# Altium footprint library Capacitor Footprints.PcbLib: 9 footprints
Each footprint in its own frame and in the unit in brackets; x right, y up, seen from the top. Pads: shape width x height; smd on the part's side, far side on the other; paste and mask are expansions set on the pad; w line width, h text height; cw(c..) or ccw(c..) is an arc to the next point about the centre after c.
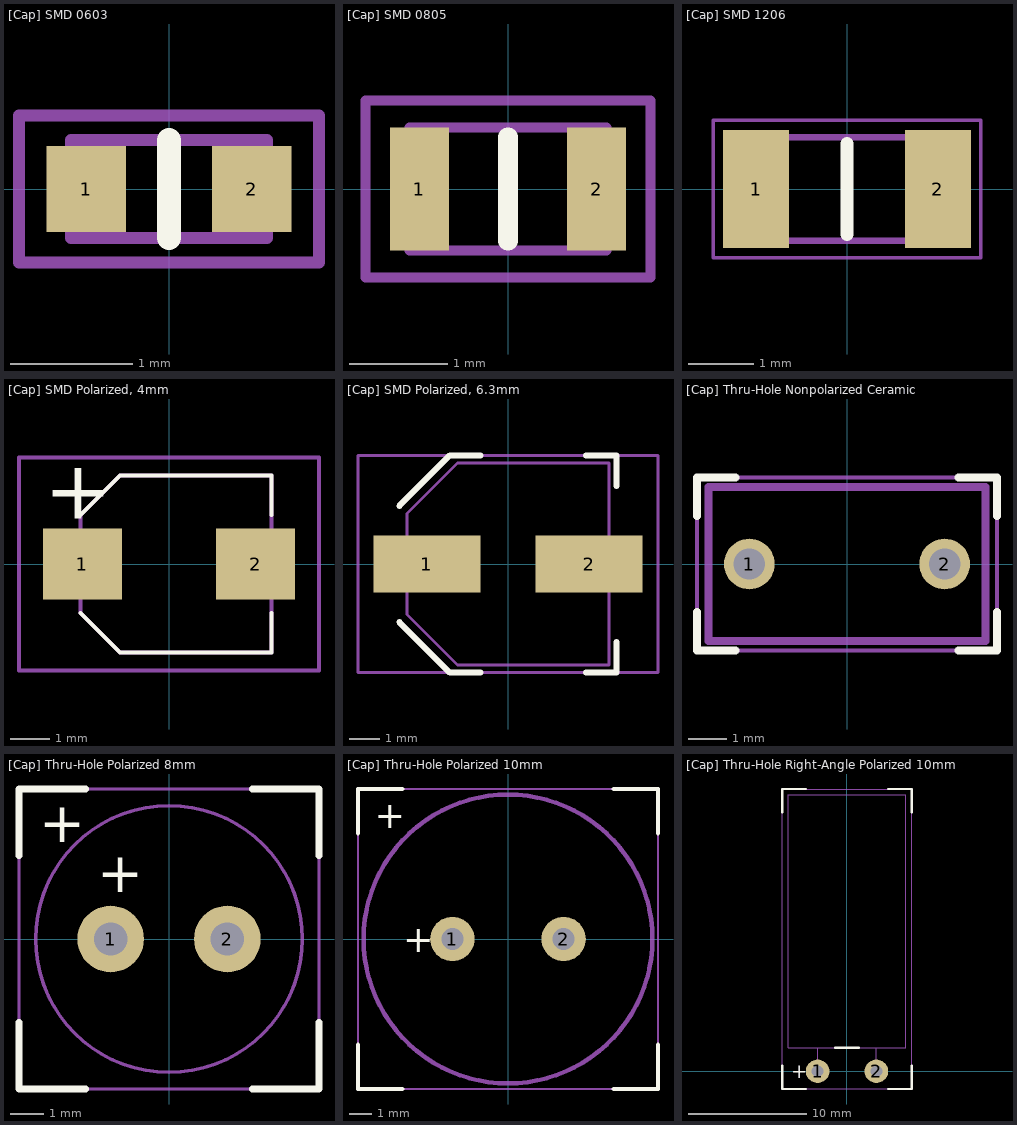
[diagram p0: the footprints below, top view; thin cyan lines are the x and y axes]

## [Cap] SMD 0603 [mm]
pads (2):
  rect 0.65x0.7 smd: 1(-0.675,0) 2(0.675,0)
Top Overlay:
  lines w0.2: 0,-0.4 0,0.4
Physical Outline:
  lines w0.1: -0.8,-0.4 0.8,-0.4 0.8,0.4 -0.8,0.4 -0.8,-0.4
Part Border:
  lines w0.1: -1.225,-0.6 1.225,-0.6 1.225,0.6 -1.225,0.6 -1.225,-0.6
3D body "GRM188C80J226ME01D.stp": height 0.8, standoff 0, extent -0.8,-0.45 0.8,0.45

## [Cap] SMD 0805 [mm]
pads (2):
  rect 0.6x1.25 smd: 1(-0.9,0) 2(0.9,0)
Top Overlay:
  lines w0.2: 0,-0.525 0,0.525
Physical Outline:
  lines w0.1: -1,-0.625 1,-0.625 1,0.625 -1,0.625 -1,-0.625
Part Border:
  lines w0.1: -1.45,-0.9 -1.45,0.9 1.45,0.9 1.45,-0.9 -1.45,-0.9
3D body "SMD Capacitor [0805].stp": height 1, standoff 0, extent -1,-0.625 1,0.625

## [Cap] SMD 1206 [mm]
pads (2):
  rect 1.02x1.82 smd: 1(-1.4,0) 2(1.4,0)
Top Overlay:
  lines w0.2: 0,-0.7 0,0.7
Physical Outline:
  lines w0.1: -1.6,-0.8 1.6,-0.8 1.6,0.8 -1.6,0.8 -1.6,-0.8
Part Border:
  lines w0.05: -2.06,-1.06 2.06,-1.06 2.06,1.06 -2.06,1.06 -2.06,-1.06
3D body "C1206F275K3RACTU.stp": height 1.8, standoff 0, extent -1.7,-0.9 1.7,0.9

## [Cap] SMD Polarized, 4mm [mm]
pads (2):
  rect 2x1.8 smd: 1(-2.2,0) 2(2.2,0)
Top Overlay:
  lines w0.1: -2.25,-1.25 -1.25,-2.25 2.6,-2.25 2.6,-1.25 ; -2.25,1.25 -1.25,2.25 2.6,2.25 2.6,1.25
  text "+" at -3.167,1.155 h1.5
Physical Outline:
  lines w0.1: -2.25,-1.25 -1.25,-2.25 2.6,-2.25 2.6,2.25 -1.25,2.25 -2.25,1.25 -2.25,-1.25
Part Border:
  lines w0.1: -3.81,-2.7 3.81,-2.7 3.81,2.7 -3.81,2.7 -3.81,-2.7
3D body "SMD Polarized Cap - 4mm.stp": height 5.66, standoff 0, extent -2.6,-2.25 2.6,2.25

## [Cap] SMD Polarized, 6.3mm [mm]
pads (2):
  rect 3.5x1.85 smd: 1(-2.65,0) 2(2.65,0)
Top Overlay:
  lines w0.2: -3.55,-1.9 -1.9,-3.55 -0.9,-3.55 ; -3.55,1.9 -1.9,3.55 -0.9,3.55 ; 2.55,-3.55 3.55,-3.55 3.55,-2.55 ; 2.55,3.55 3.55,3.55 3.55,2.55
Physical Outline:
  lines w0.1: -3.3,-1.65 -3.3,1.65 -1.65,3.3 3.3,3.3 3.3,-3.3 -1.65,-3.3 -3.3,-1.65
Part Border:
  lines w0.1: -4.9,-3.55 4.9,-3.55 4.9,3.55 -4.9,3.55 -4.9,-3.55
3D body "UWT1V470MCL1GS.stp": height 6.1, standoff 0, extent -3.7,-3.4 3.7,3.4

## [Cap] Thru-Hole Nonpolarized Ceramic [mm]
pads (2):
  round 1.316 hole 0.81: 1(-2.54,0) 2(2.54,0)
Top Overlay:
  lines w0.2: -3.9,-1.25 -3.9,-2.25 -2.9,-2.25 ; -3.9,1.25 -3.9,2.25 -2.9,2.25 ; 2.9,-2.25 3.9,-2.25 3.9,-1.25 ; 2.9,2.25 3.9,2.25 3.9,1.25
Physical Outline:
  lines w0.2: -3.6,-2 3.6,-2 3.6,2 -3.6,2 -3.6,-2
Part Border:
  lines w0.1: -3.9,-2.25 3.9,-2.25 3.9,2.25 -3.9,2.25 -3.9,-2.25
3D body "C330C105K5R5TA7301.stp": height 10.23, standoff -16.43, extent -3.555,-2.038 3.555,2.038

## [Cap] Thru-Hole Polarized 8mm [mm]
pads (2):
  round 2 hole 1: 1(-1.75,0) 2(1.75,0)
Top Overlay:
  lines w0.2: -4.5,-2.5 -4.5,-4.5 -2.5,-4.5 ; -4.5,2.5 -4.5,4.5 -2.5,4.5 ; 2.5,-4.5 4.5,-4.5 4.5,-2.5 ; 2.5,4.5 4.5,4.5 4.5,2.5
  text "+" at -3.9,2.9 h1.2
  text "+" at -2.15,1.4 h1.2
Physical Outline:
  circle w0.1: c0,0 r4
Part Border:
  lines w0.1: -4.5,-4.5 -4.5,4.5 4.5,4.5 4.5,-4.5 -4.5,-4.5
3D body "[Cap] Thru-Hole Polarized 8mm.stp": height 17.5, standoff -10, extent -4.244,-4.247 4.244,4.247

## [Cap] Thru-Hole Polarized 10mm [mm]
pads (2):
  round 2 hole 1: 1(-2.5,0) 2(2.5,0)
Top Overlay:
  lines w0.2: -6.75,-4.75 -6.75,-6.75 -4.75,-6.75 ; -6.75,4.75 -6.75,6.75 -4.75,6.75 ; 4.75,-6.75 6.75,-6.75 6.75,-4.75 ; 4.75,6.75 6.75,6.75 6.75,4.75
  text "+" at -5.988,4.988 h1.2
  text "+" at -4.718,-0.6 h1.2
Physical Outline:
  circle w0.2: c0,0 r6.5
  circle w0.1: c0,0 r6.5
Part Border:
  lines w0.1: -6.75,-6.75 -6.75,6.75 6.75,6.75 6.75,-6.75 -6.75,-6.75
3D body "EKY-350ELL102MK25S.stp": height 26.5, standoff -10, extent -6.5,-6.487 6.5,6.487

## [Cap] Thru-Hole Right-Angle Polarized 10mm [mm]
pads (2):
  round 2 hole 1: 1(-2.5,0) 2(2.5,0)
Top Overlay:
  lines w0.2: -5.5,0.5 -5.5,-1.5 -3.5,-1.5 ; -5.5,22 -5.5,24 -3.5,24 ; -1,2 1,2 ; 3.5,-1.5 5.5,-1.5 5.5,0.5 ; 3.5,24 5.5,24 5.5,22
  text "+" at -4.718,-0.6 h1.2
Physical Outline:
  lines w0.1: -2.5,0 -2.5,2 ; 2.5,0 2.5,2 ; -5,2 -5,23.5 5,23.5 5,2 -5,2
Part Border:
  lines w0.1: -5.5,-1.5 5.5,-1.5 5.5,24 -5.5,24 -5.5,-1.5
3D body "[Cap] Right-Angle Thru-Hole Cap h=21.5 d=10mm.step": height 9.99, standoff -2, extent -4.997,-0.298 4.997,23.5